# EAGLE library part DMN63D8LDW (library MOSFETS)
Dual N-channel enhancement mode MOSFET
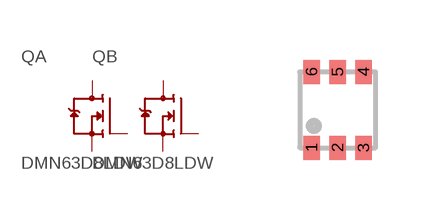
[diagram p0: symbol with the pads of SOT363; footprint SOT363]

Designator prefix Q; gates B=MOSFET-NCHANNEL A=MOSFET-NCHANNEL

## DMN63D8LDW  [SOT363]
1  A:S
2  A:G
3  B:D
4  B:S
5  B:G
6  A:D

## Footprint SOT363 (pad centres in mm)
smd 0.42 x 0.6: 1 -0.65,-0.95; 2 0,-0.95; 3 0.65,-0.95; 4 0.65,0.95; 5 0,0.95; 6 -0.65,0.95